# EAGLE library part GHI-IC_SN74AUC1G74 (library BeagleBone_Black_Wireless)
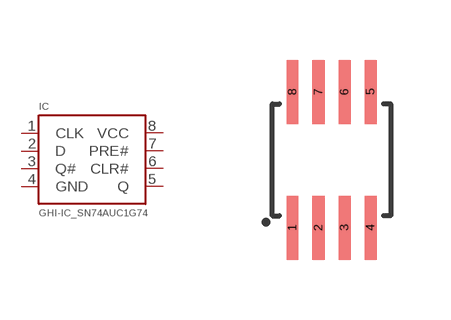
[diagram p1: symbol with the pads of GHI-IC_SM8-8(TI); footprint GHI-IC_SM8-8(TI)]

Designator prefix IC

## GHI-IC_SN74AUC1G74  [GHI-IC_SM8-8(TI)]
1  CLK
2  D
3  Q#
4  GND
5  Q
6  CLR#
7  PRE#
8  VCC

## Footprint GHI-IC_SM8-8(TI) (pad centres in mm)
smd 0.3 x 1.6: 1 -0.975,-1.7; 2 -0.325,-1.7; 3 0.325,-1.7; 4 0.975,-1.7; 5 0.975,1.7; 6 0.325,1.7; 7 -0.325,1.7; 8 -0.975,1.7